# Altium footprint library TipoC.PcbLib: 1 footprints
Each footprint in its own frame and in the unit in brackets; x right, y up, seen from the top. Pads: shape width x height; smd on the part's side, far side on the other; paste and mask are expansions set on the pad; w line width, h text height; cw(c..) or ccw(c..) is an arc to the next point about the centre after c.
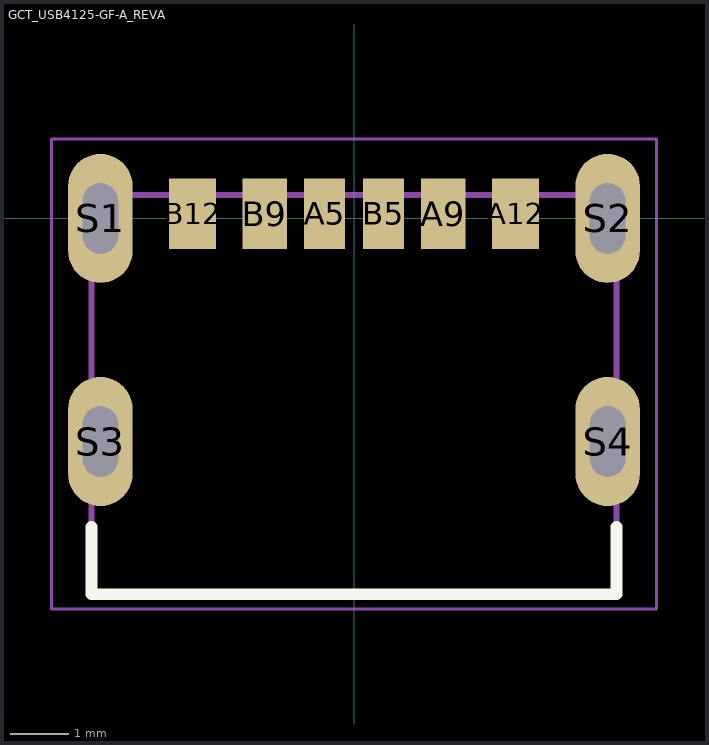
[diagram p0: the footprint, top view; thin cyan lines are the x and y axes]

## GCT_USB4125-GF-A_REVA [mm]
pads (10):
  rect 0.7x1.2 smd: A5(-0.5,0.08) B5(0.5,0.08)
  rect 0.76x1.2 smd: A9(1.52,0.08) B9(-1.52,0.08)
  rect 0.8x1.2 smd: A12(2.75,0.08) B12(-2.75,0.08)
  oval 1.1x2.2 hole 0.6 slot 1.2 at 90 deg: S1(-4.32,0) S2(4.32,0) S3(-4.32,-3.8) S4(4.32,-3.8)
Top Overlay:
  lines w0.2: -4.47,-5.25 -4.47,-6.4 4.47,-6.4 4.47,-5.25
Mechanical 13:
  lines w0.1: -4.47,-6.4 -4.47,0.4 4.47,0.4 4.47,-6.4 -4.47,-6.4
Mechanical 15:
  lines w0.05: -5.15,-6.65 -5.15,1.35 5.15,1.35 5.15,-6.65 -5.15,-6.65
3D body "USB4125-GF-A--3DModel-STEP-56544.STEP": height 3.26, standoff -1.25, extent -4.47,-6.371 4.47,0.529